# Altium schematic symbol library BIS0001.SchLib: 3 symbols
Pins are listed as number, name and electrical type; pins without a type are passive.

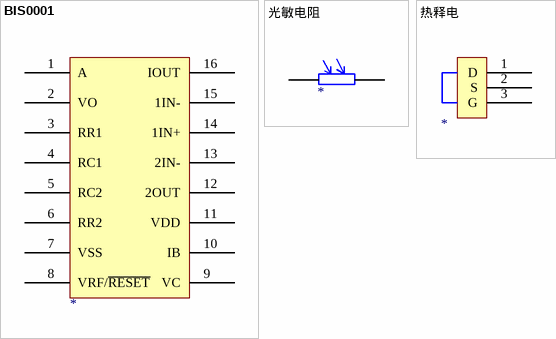
[diagram p0: symbols BIS0001 to 热释电]

## BIS0001
designator ?
pins: 1 A, 2 VO, 3 RR1, 4 RC1, 5 RC2, 6 RR2, 7 VSS, 8 VRF/~{RESET}, 9 VC, 10 IB, 11 VDD, 12 2OUT, 13 2IN-, 14 1IN+, 15 1IN-, 16 IOUT

## 光敏电阻
designator ?
pins: 1, 2

## 热释电
designator ?
pins: 1 D, 2 S, 3 G